# Altium footprint library BGA (1.27mm Pitch, Square1).PcbLib: 20 footprints (part 2 of 2)
Each footprint in its own frame and in the unit in brackets; x right, y up, seen from the top. Pads: shape width x height; smd on the part's side, far side on the other; paste and mask are expansions set on the pad; w line width, h text height; cw(c..) or ccw(c..) is an arc to the next point about the centre after c.
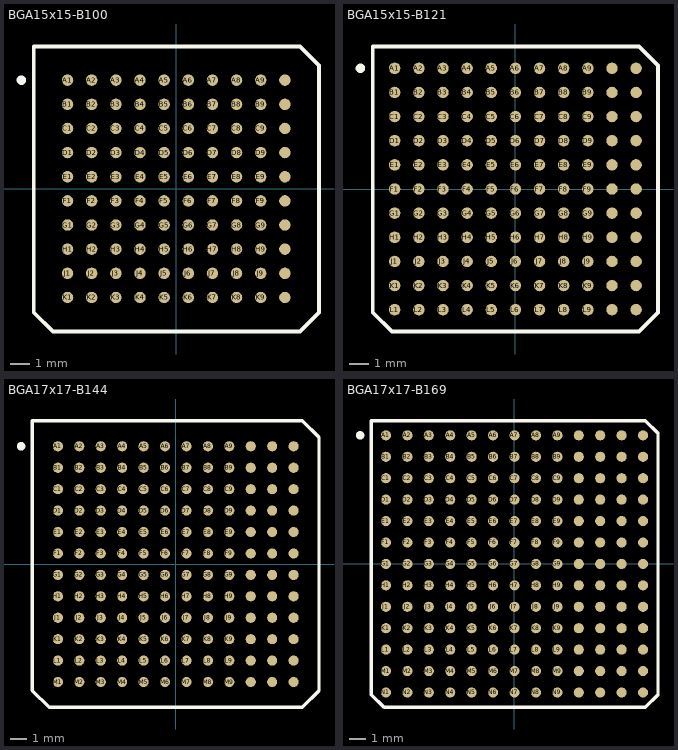
[diagram p1: the footprints below, top view; thin cyan lines are the x and y axes]

## BGA15x15-B100 [mm] "BGA; 100 Balls; Body 15 x 15 mm; Pitch 1.27 mm"
height 3.5
pads (100):
  round 0.6 smd: A1(-5.715,5.715) A2(-4.445,5.715) A3(-3.175,5.715) A4(-1.905,5.715) A5(-0.635,5.715) A6(0.635,5.715) A7(1.905,5.715) A8(3.175,5.715) A9(4.445,5.715) A10(5.715,5.715) B1(-5.715,4.445) B2(-4.445,4.445) B3(-3.175,4.445) B4(-1.905,4.445) B5(-0.635,4.445) B6(0.635,4.445) B7(1.905,4.445) B8(3.175,4.445) B9(4.445,4.445) B10(5.715,4.445) C1(-5.715,3.175) C2(-4.445,3.175) C3(-3.175,3.175) C4(-1.905,3.175) C5(-0.635,3.175) C6(0.635,3.175) C7(1.905,3.175) C8(3.175,3.175) C9(4.445,3.175) C10(5.715,3.175) D1(-5.715,1.905) D2(-4.445,1.905) D3(-3.175,1.905) D4(-1.905,1.905) D5(-0.635,1.905) D6(0.635,1.905) D7(1.905,1.905) D8(3.175,1.905) D9(4.445,1.905) D10(5.715,1.905) E1(-5.715,0.635) E2(-4.445,0.635) E3(-3.175,0.635) E4(-1.905,0.635) E5(-0.635,0.635) E6(0.635,0.635) E7(1.905,0.635) E8(3.175,0.635) E9(4.445,0.635) E10(5.715,0.635) F1(-5.715,-0.635) F2(-4.445,-0.635) F3(-3.175,-0.635) F4(-1.905,-0.635) F5(-0.635,-0.635) F6(0.635,-0.635) F7(1.905,-0.635) F8(3.175,-0.635) F9(4.445,-0.635) F10(5.715,-0.635) G1(-5.715,-1.905) G2(-4.445,-1.905) G3(-3.175,-1.905) G4(-1.905,-1.905) G5(-0.635,-1.905) G6(0.635,-1.905) G7(1.905,-1.905) G8(3.175,-1.905) G9(4.445,-1.905) G10(5.715,-1.905) H1(-5.715,-3.175) H2(-4.445,-3.175) H3(-3.175,-3.175) H4(-1.905,-3.175) H5(-0.635,-3.175) H6(0.635,-3.175) H7(1.905,-3.175) H8(3.175,-3.175) H9(4.445,-3.175) H10(5.715,-3.175) J1(-5.715,-4.445) J2(-4.445,-4.445) J3(-3.175,-4.445) J4(-1.905,-4.445) J5(-0.635,-4.445) J6(0.635,-4.445) J7(1.905,-4.445) J8(3.175,-4.445) J9(4.445,-4.445) J10(5.715,-4.445) K1(-5.715,-5.715) K2(-4.445,-5.715) K3(-3.175,-5.715) K4(-1.905,-5.715) K5(-0.635,-5.715) K6(0.635,-5.715) K7(1.905,-5.715) K8(3.175,-5.715) K9(4.445,-5.715) K10(5.715,-5.715)
Top Overlay:
  circle w0.25: c-8.145,5.715 r0.125
  lines w0.2: -7.49,-6.51 -6.49,-7.51 6.51,-7.51 7.51,-6.51 7.51,6.49 6.51,7.49 -7.49,7.49 -7.49,-6.51

## BGA15x15-B121 [mm] "BGA; 121 Balls; Body 15 x 15 mm; Pitch 1.27 mm"
height 3.5
pads (121):
  round 0.6 smd: A1(-6.35,6.35) A2(-5.08,6.35) A3(-3.81,6.35) A4(-2.54,6.35) A5(-1.27,6.35) A6(0,6.35) A7(1.27,6.35) A8(2.54,6.35) A9(3.81,6.35) A10(5.08,6.35) A11(6.35,6.35) B1(-6.35,5.08) B2(-5.08,5.08) B3(-3.81,5.08) B4(-2.54,5.08) B5(-1.27,5.08) B6(0,5.08) B7(1.27,5.08) B8(2.54,5.08) B9(3.81,5.08) B10(5.08,5.08) B11(6.35,5.08) C1(-6.35,3.81) C2(-5.08,3.81) C3(-3.81,3.81) C4(-2.54,3.81) C5(-1.27,3.81) C6(0,3.81) C7(1.27,3.81) C8(2.54,3.81) C9(3.81,3.81) C10(5.08,3.81) C11(6.35,3.81) D1(-6.35,2.54) D2(-5.08,2.54) D3(-3.81,2.54) D4(-2.54,2.54) D5(-1.27,2.54) D6(0,2.54) D7(1.27,2.54) D8(2.54,2.54) D9(3.81,2.54) D10(5.08,2.54) D11(6.35,2.54) E1(-6.35,1.27) E2(-5.08,1.27) E3(-3.81,1.27) E4(-2.54,1.27) E5(-1.27,1.27) E6(0,1.27) E7(1.27,1.27) E8(2.54,1.27) E9(3.81,1.27) E10(5.08,1.27) E11(6.35,1.27) F1(-6.35,0) F2(-5.08,0) F3(-3.81,0) F4(-2.54,0) F5(-1.27,0) F6(0,0) F7(1.27,0) F8(2.54,0) F9(3.81,0) F10(5.08,0) F11(6.35,0) G1(-6.35,-1.27) G2(-5.08,-1.27) G3(-3.81,-1.27) G4(-2.54,-1.27) G5(-1.27,-1.27) G6(0,-1.27) G7(1.27,-1.27) G8(2.54,-1.27) G9(3.81,-1.27) G10(5.08,-1.27) G11(6.35,-1.27) H1(-6.35,-2.54) H2(-5.08,-2.54) H3(-3.81,-2.54) H4(-2.54,-2.54) H5(-1.27,-2.54) H6(0,-2.54) H7(1.27,-2.54) H8(2.54,-2.54) H9(3.81,-2.54) H10(5.08,-2.54) H11(6.35,-2.54) J1(-6.35,-3.81) J2(-5.08,-3.81) J3(-3.81,-3.81) J4(-2.54,-3.81) J5(-1.27,-3.81) J6(0,-3.81) J7(1.27,-3.81) J8(2.54,-3.81) J9(3.81,-3.81) J10(5.08,-3.81) J11(6.35,-3.81) K1(-6.35,-5.08) K2(-5.08,-5.08) K3(-3.81,-5.08) K4(-2.54,-5.08) K5(-1.27,-5.08) K6(0,-5.08) K7(1.27,-5.08) K8(2.54,-5.08) K9(3.81,-5.08) K10(5.08,-5.08) K11(6.35,-5.08) L1(-6.35,-6.35) L2(-5.08,-6.35) L3(-3.81,-6.35) L4(-2.54,-6.35) L5(-1.27,-6.35) L6(0,-6.35) L7(1.27,-6.35) L8(2.54,-6.35) L9(3.81,-6.35) L10(5.08,-6.35) L11(6.35,-6.35)
Top Overlay:
  circle w0.25: c-8.155,6.35 r0.125
  lines w0.2: -7.5,-6.5 -6.5,-7.5 6.5,-7.5 7.5,-6.5 7.5,6.5 6.5,7.5 -7.5,7.5 -7.5,-6.5

## BGA17x17-B144 [mm] "BGA; 144 Balls; Body 17 x 17 mm; Pitch 1.27 mm"
height 3.5
pads (144):
  round 0.6 smd: A1(-6.985,6.985) A2(-5.715,6.985) A3(-4.445,6.985) A4(-3.175,6.985) A5(-1.905,6.985) A6(-0.635,6.985) A7(0.635,6.985) A8(1.905,6.985) A9(3.175,6.985) A10(4.445,6.985) A11(5.715,6.985) A12(6.985,6.985) B1(-6.985,5.715) B2(-5.715,5.715) B3(-4.445,5.715) B4(-3.175,5.715) B5(-1.905,5.715) B6(-0.635,5.715) B7(0.635,5.715) B8(1.905,5.715) B9(3.175,5.715) B10(4.445,5.715) B11(5.715,5.715) B12(6.985,5.715) C1(-6.985,4.445) C2(-5.715,4.445) C3(-4.445,4.445) C4(-3.175,4.445) C5(-1.905,4.445) C6(-0.635,4.445) C7(0.635,4.445) C8(1.905,4.445) C9(3.175,4.445) C10(4.445,4.445) C11(5.715,4.445) C12(6.985,4.445) D1(-6.985,3.175) D2(-5.715,3.175) D3(-4.445,3.175) D4(-3.175,3.175) D5(-1.905,3.175) D6(-0.635,3.175) D7(0.635,3.175) D8(1.905,3.175) D9(3.175,3.175) D10(4.445,3.175) D11(5.715,3.175) D12(6.985,3.175) E1(-6.985,1.905) E2(-5.715,1.905) E3(-4.445,1.905) E4(-3.175,1.905) E5(-1.905,1.905) E6(-0.635,1.905) E7(0.635,1.905) E8(1.905,1.905) E9(3.175,1.905) E10(4.445,1.905) E11(5.715,1.905) E12(6.985,1.905) F1(-6.985,0.635) F2(-5.715,0.635) F3(-4.445,0.635) F4(-3.175,0.635) F5(-1.905,0.635) F6(-0.635,0.635) F7(0.635,0.635) F8(1.905,0.635) F9(3.175,0.635) F10(4.445,0.635) F11(5.715,0.635) F12(6.985,0.635) G1(-6.985,-0.635) G2(-5.715,-0.635) G3(-4.445,-0.635) G4(-3.175,-0.635) G5(-1.905,-0.635) G6(-0.635,-0.635) G7(0.635,-0.635) G8(1.905,-0.635) G9(3.175,-0.635) G10(4.445,-0.635) G11(5.715,-0.635) G12(6.985,-0.635) H1(-6.985,-1.905) H2(-5.715,-1.905) H3(-4.445,-1.905) H4(-3.175,-1.905) H5(-1.905,-1.905) H6(-0.635,-1.905) H7(0.635,-1.905) H8(1.905,-1.905) H9(3.175,-1.905) H10(4.445,-1.905) H11(5.715,-1.905) H12(6.985,-1.905) J1(-6.985,-3.175) J2(-5.715,-3.175) J3(-4.445,-3.175) J4(-3.175,-3.175) J5(-1.905,-3.175) J6(-0.635,-3.175) J7(0.635,-3.175) J8(1.905,-3.175) J9(3.175,-3.175) J10(4.445,-3.175) J11(5.715,-3.175) J12(6.985,-3.175) K1(-6.985,-4.445) K2(-5.715,-4.445) K3(-4.445,-4.445) K4(-3.175,-4.445) K5(-1.905,-4.445) K6(-0.635,-4.445) K7(0.635,-4.445) K8(1.905,-4.445) K9(3.175,-4.445) K10(4.445,-4.445) K11(5.715,-4.445) K12(6.985,-4.445) L1(-6.985,-5.715) L2(-5.715,-5.715) L3(-4.445,-5.715) L4(-3.175,-5.715) L5(-1.905,-5.715) L6(-0.635,-5.715) L7(0.635,-5.715) L8(1.905,-5.715) L9(3.175,-5.715) L10(4.445,-5.715) L11(5.715,-5.715) L12(6.985,-5.715) M1(-6.985,-6.985) M2(-5.715,-6.985) M3(-4.445,-6.985) M4(-3.175,-6.985) M5(-1.905,-6.985) M6(-0.635,-6.985) M7(0.635,-6.985) M8(1.905,-6.985) M9(3.175,-6.985) M10(4.445,-6.985) M11(5.715,-6.985) M12(6.985,-6.985)
Top Overlay:
  circle w0.25: c-9.165,6.985 r0.125
  lines w0.2: -8.51,-7.49 -8.51,8.51 7.49,8.51 8.49,7.51 8.49,-7.49 7.49,-8.49 -7.51,-8.49 -8.51,-7.49

## BGA17x17-B169 [mm] "BGA; 169 Balls; Body 17 x 17 mm; Pitch 1.27 mm"
height 3.5
pads (169):
  round 0.6 smd: A1(-7.62,7.62) A2(-6.35,7.62) A3(-5.08,7.62) A4(-3.81,7.62) A5(-2.54,7.62) A6(-1.27,7.62) A7(0,7.62) A8(1.27,7.62) A9(2.54,7.62) A10(3.81,7.62) A11(5.08,7.62) A12(6.35,7.62) A13(7.62,7.62) B1(-7.62,6.35) B2(-6.35,6.35) B3(-5.08,6.35) B4(-3.81,6.35) B5(-2.54,6.35) B6(-1.27,6.35) B7(0,6.35) B8(1.27,6.35) B9(2.54,6.35) B10(3.81,6.35) B11(5.08,6.35) B12(6.35,6.35) B13(7.62,6.35) C1(-7.62,5.08) C2(-6.35,5.08) C3(-5.08,5.08) C4(-3.81,5.08) C5(-2.54,5.08) C6(-1.27,5.08) C7(0,5.08) C8(1.27,5.08) C9(2.54,5.08) C10(3.81,5.08) C11(5.08,5.08) C12(6.35,5.08) C13(7.62,5.08) D1(-7.62,3.81) D2(-6.35,3.81) D3(-5.08,3.81) D4(-3.81,3.81) D5(-2.54,3.81) D6(-1.27,3.81) D7(0,3.81) D8(1.27,3.81) D9(2.54,3.81) D10(3.81,3.81) D11(5.08,3.81) D12(6.35,3.81) D13(7.62,3.81) E1(-7.62,2.54) E2(-6.35,2.54) E3(-5.08,2.54) E4(-3.81,2.54) E5(-2.54,2.54) E6(-1.27,2.54) E7(0,2.54) E8(1.27,2.54) E9(2.54,2.54) E10(3.81,2.54) E11(5.08,2.54) E12(6.35,2.54) E13(7.62,2.54) F1(-7.62,1.27) F2(-6.35,1.27) F3(-5.08,1.27) F4(-3.81,1.27) F5(-2.54,1.27) F6(-1.27,1.27) F7(0,1.27) F8(1.27,1.27) F9(2.54,1.27) F10(3.81,1.27) F11(5.08,1.27) F12(6.35,1.27) F13(7.62,1.27) G1(-7.62,0) G2(-6.35,0) G3(-5.08,0) G4(-3.81,0) G5(-2.54,0) G6(-1.27,0) G7(0,0) G8(1.27,0) G9(2.54,0) G10(3.81,0) G11(5.08,0) G12(6.35,0) G13(7.62,0) H1(-7.62,-1.27) H2(-6.35,-1.27) H3(-5.08,-1.27) H4(-3.81,-1.27) H5(-2.54,-1.27) H6(-1.27,-1.27) H7(0,-1.27) H8(1.27,-1.27) H9(2.54,-1.27) H10(3.81,-1.27) H11(5.08,-1.27) H12(6.35,-1.27) H13(7.62,-1.27) J1(-7.62,-2.54) J2(-6.35,-2.54) J3(-5.08,-2.54) J4(-3.81,-2.54) J5(-2.54,-2.54) J6(-1.27,-2.54) J7(0,-2.54) J8(1.27,-2.54) J9(2.54,-2.54) J10(3.81,-2.54) J11(5.08,-2.54) J12(6.35,-2.54) J13(7.62,-2.54) K1(-7.62,-3.81) K2(-6.35,-3.81) K3(-5.08,-3.81) K4(-3.81,-3.81) K5(-2.54,-3.81) K6(-1.27,-3.81) K7(0,-3.81) K8(1.27,-3.81) K9(2.54,-3.81) K10(3.81,-3.81) K11(5.08,-3.81) K12(6.35,-3.81) K13(7.62,-3.81) L1(-7.62,-5.08) L2(-6.35,-5.08) L3(-5.08,-5.08) L4(-3.81,-5.08) L5(-2.54,-5.08) L6(-1.27,-5.08) L7(0,-5.08) L8(1.27,-5.08) L9(2.54,-5.08) L10(3.81,-5.08) L11(5.08,-5.08) L12(6.35,-5.08) L13(7.62,-5.08) M1(-7.62,-6.35) M2(-6.35,-6.35) M3(-5.08,-6.35) M4(-3.81,-6.35) M5(-2.54,-6.35) M6(-1.27,-6.35) M7(0,-6.35) M8(1.27,-6.35) M9(2.54,-6.35) M10(3.81,-6.35) M11(5.08,-6.35) M12(6.35,-6.35) M13(7.62,-6.35) N1(-7.62,-7.62) N2(-6.35,-7.62) N3(-5.08,-7.62) N4(-3.81,-7.62) N5(-2.54,-7.62) N6(-1.27,-7.62) N7(0,-7.62) N8(1.27,-7.62) N9(2.54,-7.62) N10(3.81,-7.62) N11(5.08,-7.62) N12(6.35,-7.62) N13(7.62,-7.62)
Top Overlay:
  circle w0.25: c-9.15,7.62 r0.125
  lines w0.2: -8.495,-7.745 -7.735,-8.505 7.745,-8.505 8.505,-7.745 8.505,7.735 7.745,8.495 -8.495,8.495 -8.495,-7.745